# Altium footprint library Additional.PcbLib: 3 footprints
Each footprint in its own frame and in the unit in brackets; x right, y up, seen from the top. Pads: shape width x height; smd on the part's side, far side on the other; paste and mask are expansions set on the pad; w line width, h text height; cw(c..) or ccw(c..) is an arc to the next point about the centre after c.
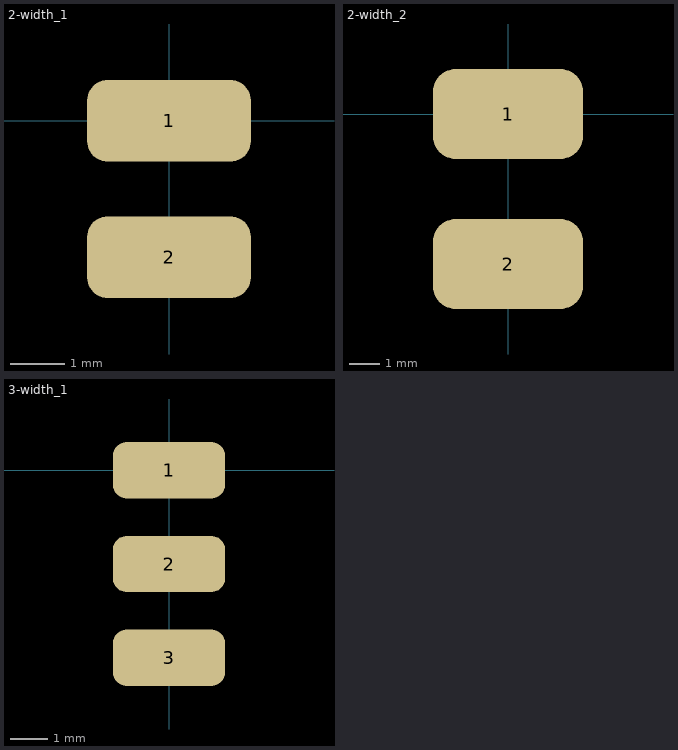
[diagram p0: the footprints below, top view; thin cyan lines are the x and y axes]

## 2-width_1 [mm]
pads (2):
  rrect50% 3x1.5 all layers, no hole: 1(0,0) 2(0,-2.5)

## 2-width_2 [mm]
pads (2):
  rrect50% 5x3 all layers, no hole: 1(0,0) 2(0,-5)

## 3-width_1 [mm]
pads (3):
  rrect50% 3x1.5 all layers, no hole: 1(0,0) 2(0,-2.5) 3(0,-5)